# Altium schematic symbol library PTSM.SchLib: 1 symbol
Pins are listed as number, name and electrical type; pins without a type are passive.

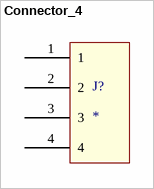
[diagram p0: symbol Connector_4]

## Connector_4
designator J?
footprint PTSM 0,5/ 4-2,5-H THR WH R32
footprint PTSM 0,5/ 4-HHI-2,5-THR WH R32
pins: 1, 2, 3, 4